# Altium schematic symbol library TCA6408A.SchLib: 1 symbol
Pins are listed as number, name and electrical type; pins without a type are passive.

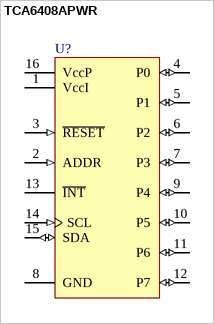
[diagram p0: symbol TCA6408APWR]

## TCA6408APWR
designator U?
pins: 1 VccI (power) "Supply voltage of I²C bus", 2 ADDR (in) "Address input. Connect directly to VccP or ground.", 3 ~{RESET} (in) "Active-low reset input. Connect to VccI through a pull-up resistor, (...)", 4 P0 (io) "P-port input/output (push-pull design structure).", 5 P1 (io) "P-port input/output (push-pull design structure).", 6 P2 (io) "P-port input/output (push-pull design structure).", 7 P3 (io) "P-port input/output (push-pull design structure).", 8 GND (power) "Ground", 9 P4 (io) "P-port input/output (push-pull design structure).", 10 P5 (io) "P-port input/output (push-pull design structure).", 11 P6 (io) "P-port input/output (push-pull design structure).", 12 P7 (io) "P-port input/output (push-pull design structure).", 13 ~{INT} (oc) "Interrupt output. Connect to VccI through a pull-up resistor.", 14 SCL (in) "Serial clock bus. Connect to VccI through a pull-up resistor.", 15 SDA (io) "Serial data bus. Connect to VccI through a pull-up resistor.", 16 VccP (power) "Supply voltage for P-ports"